# Altium schematic symbol library KeetV2.SchLib: 88 symbols (part 1 of 4)
Pins are listed as number, name and electrical type; pins without a type are passive.

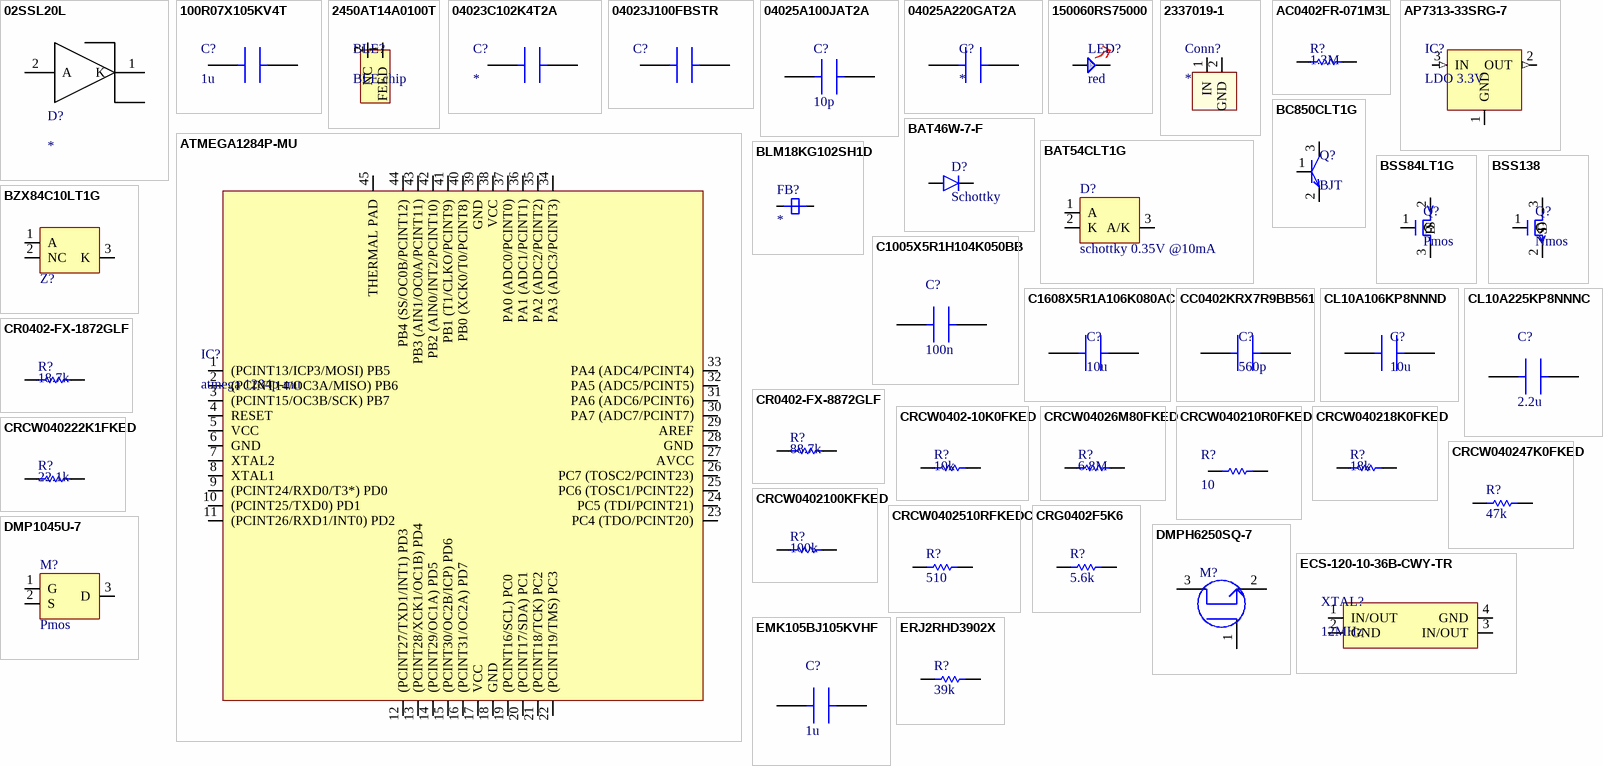
[diagram p0: symbols 02SSL20L to ERJ2RHD3902X]

## 02SSL20L
designator D?
SCHOTTKY DIODE https://eu.mouser.com/datasheet/2/345/02ssl20l-02ssl40l-1107799.pdf
footprint SODFL370X100-2N (SODFL, 2-Leads, Body 1,85x3,70mm, IPC Medium Density)
pins: 1 K, 2 A

## 100R07X105KV4T
designator C?, comment 1u
Cap Ceramic 1uF 10V X5R 10% SMD 0402 85C T/R LOW ESR; Manufacturer: Johanson; Manufacturer Part Number: 100R07X105KV4T; Supplier 1: Mouser; RoHS: Yes; Category: Ceramic Capacitors; Stock 1: 216743; Pricing 1: 1=0,26000, 10=0,13400, 50=0,13400, 100=0,07600, 1000=0,04900, 10000=0,04000 (USD); Mount: Surface Mount; Case/Package: 0402; Number of Pins: 2; Case Code (Metric): 1005; Case Code (Imperial): 0402; Weight: 2.3E-05oz; Min Operating Temperature: -55°C; Max Operating Temperature: 85°C; Capacitance: 1uF; Tolerance: 10%; Voltage Rating: 10V; Packaging: Tape and Reel; Package Quantity: 10000; Voltage Rating (DC): 10V; Dielectric: X5R; Termination: SMD/SMT; Series: TANCERAM®; Length: 1.02mm; Width: 0.02inch; Height: 0.64mm; Thickness: 0.025inch; Depth: 0.51mm; Radiation Hardening: No; REACH SVHC: No SVHC; RoHS Compliant: Yes; ComponentLink1URL: https://datasheet.ciiva.com/22693/jdi-full-catalog-2012-01-22693744.pdf?src-supplier=Element14; ComponentLink1Description: https://datasheet.ciiva.com/22693/jdi-full-catalog-2012-01-22693744.pdf?src-supplier=Element14; ComponentLink2URL: https://datasheet.ciiva.com/26948/getdatasheetpartid-789067-26948543.pdf?src-supplier=Verical; ComponentLink2Description: https://datasheet.ciiva.com/26948/getdatasheetpartid-789067-26948543.pdf?src-supplier=Verical; Supplier Part Number 1: 605-100R07X105KV4T
footprint CAPC1005X06N (Chip Capacitor, 0402, 2-Leads, Body 1,02x0,50mm, IPC Medium Density)
pins: 1, 2

## 2450AT14A0100T
designator BLE?, comment BLE chip
RF ANT 2.4GHZ CHIP SOLDER SMD; Manufacturer: Johanson; Manufacturer Part Number: 2450AT14A0100T; Number of Bands: 1; Return Loss: 9dB; Max Power Dissipation: 2W; Supplier 1: Digi-Key; RoHS: No; Stock 1: 5238; Pricing 1: 1=0,42000, 10=0,35600, 25=0,33240, 100=0,26600, 250=0,24700, 500=0,20900, 1000=0,16150 (USD); Mount: Surface Mount; Packaging: Tape and Reel; Termination: Solder; ComponentLink1URL: https://www.johansontechnology.com/datasheets/2450AT14A0100/2450AT14A0100.pdf?src-supplier=Digi-Key; ComponentLink1Description: https://www.johansontechnology.com/datasheets/2450AT14A0100/2450AT14A0100.pdf?src-supplier=Digi-Key; Supplier Part Number 1: 712-1636-1-ND
footprint BLE antenna (antenna bluethooth)
pins: 1 FEED, 2 NC

## 04023C102K4T2A
designator C?
Cap Ceramic 0.001uF 25V X7R 10% SMD 0402 125°C Paper T/R 1nF; Manufacturer: Kyocera AVX; Manufacturer Part Number: 04023C102K4T2A; Supplier 1: Digi-Key; RoHS: Yes; Category: Ceramic Capacitors; Stock 1: 34215; Pricing 1: 1=0,10000, 10=0,06700, 50=0,03640, 100=0,02960, 500=0,02118, 1000=0,01664, 2500=0,01512, 5000=0,01392 (USD); Case/Package: 0402; Dielectric: X7R; Voltage Rating (DC): 25V; Capacitance: 1nF; Tolerance: 10%; RoHS Compliant: Yes; Supplier Part Number 1: 478-04023C102K4T2ACT-ND
footprint CAPC1005X06N (Chip Capacitor, 0402, 2-Leads, Body 1,02x0,50mm, IPC Medium Density)
pins: 1, 2

## 04023J100FBSTR
designator C?, comment 10p  (value not drawn)
Multilayer Ceramic Capacitors MLCC - SMD/SMT 25V 10pF ThnFlm 0402 1% Tol; Manufacturer: Kyocera AVX; Manufacturer Part Number: 04023J100FBSTR; Supplier 1: Mouser; RoHS: Yes; Category: Film Capacitors; Stock 1: 1287; Pricing 1: 1=0,98000, 10=0,74000, 50=0,74000, 100=0,52900, 1000=0,35300, 10000=0,26100 (USD); Case/Package: 0402; Case Code (Imperial): 0402; Case Code (Metric): 1005; Weight: 2.3E-05oz; Min Operating Temperature: -55°C; Max Operating Temperature: 125°C; Voltage Rating (DC): 25V; Tolerance: 1%; Packaging: Tape and Reel; Termination: SMD/SMT; Resistor Type: Thin Film; Capacitance: 10pF; Length: 1mm; Width: 0.5mm; Height: 0.4mm; ComponentLink1URL: http://www.mouser.com/ds/2/40/avx_accuf-p-542740.pdf?src-supplier=Mouser; ComponentLink1Description: http://www.mouser.com/ds/2/40/avx_accuf-p-542740.pdf?src-supplier=Mouser; Supplier Part Number 1: 581-04023J100FBSTR
footprint CAPC1005X06N (Chip Capacitor, 0402, 2-Leads, Body 1,02x0,50mm, IPC Medium Density)
pins: 1, 2

## 04025A100JAT2A
designator C?, comment 10p
AVX - 04025A100JAT2A - SMD Multilayer Ceramic Capacitor, 10 pF, 50 V, 0402 [1005 Metric], ± 5%, C0G / NP0, AVX 0402 MLCC; Manufacturer: Kyocera AVX; Capacitance: 10pF; Voltage Rating (DC): 50V; Temperature Coefficient: 0ppm/°C; Supplier 1: Mouser; Manufacturer Part Number: 04025A100JAT2A; RoHS: Yes; Category: Ceramic Capacitors; Stock 1: 243212; Pricing 1: 1=0,08000, 10=0,01700, 50=0,01700, 100=0,01400, 1000=0,00800, 10000=0,00500 (USD); Mount: Surface Mount,PCB; Case/Package: 0402; Number of Pins: 2; Case Code (Imperial): 0402; Case Code (Metric): 1005; Contact Plating: Tin,Matte; Dielectric Material: Ceramic; Min Operating Temperature: -55°C; Max Operating Temperature: 125°C; Tolerance: 5%; Dielectric: C0G; Packaging: Tape and Reel; Voltage Rating: 50V; Package Quantity: 1; Termination: SMD/SMT; Voltage: 50V; Series: -; Construction: Flat; Length: 1mm; Width: 0.5mm; Height: 0.5mm; Depth: 0.5mm; Thickness: 0.022inch; Radiation Hardening: No; REACH SVHC: No SVHC; Lead Free: Lead Free; RoHS Compliant: Yes; ComponentLink1URL: https://datasheet.ciiva.com/150/ccog-150503.pdf?src-supplier=Digi-Key; ComponentLink1Description: https://datasheet.ciiva.com/150/ccog-150503.pdf?src-supplier=Digi-Key; ComponentLink2URL: https://datasheet.ciiva.com/150/ccog-150504.pdf?src-supplier=Digi-Key; ComponentLink2Description: https://datasheet.ciiva.com/150/ccog-150504.pdf?src-supplier=Digi-Key; ComponentLink3URL: https://datasheet.ciiva.com/2987/ccog-2987640.pdf?src-supplier=Avnet; ComponentLink3Description: https://datasheet.ciiva.com/2987/ccog-2987640.pdf?src-supplier=Avnet; ComponentLink4URL: https://datasheet.ciiva.com/150/ccog-150505.pdf?src-supplier=Digi-Key; ComponentLink4Description: https://datasheet.ciiva.com/150/ccog-150505.pdf?src-supplier=Digi-Key; ComponentLink5URL: https://datasheet.ciiva.com/16389/ccog-16389833.pdf?src-supplier=Future+Electronics; ComponentLink5Description: https://datasheet.ciiva.com/16389/ccog-16389833.pdf?src-supplier=Future+Electronics; ComponentLink6URL: https://datasheet.ciiva.com/7709/759117-7709531.pdf?src-supplier=Element14; ComponentLink6Description: https://datasheet.ciiva.com/7709/759117-7709531.pdf?src-supplier=Element14; ComponentLink7URL: https://datasheet.ciiva.com/7709/84496-7709756.pdf?src-supplier=Element14; ComponentLink7Description: https://datasheet.ciiva.com/7709/84496-7709756.pdf?src-supplier=Element14; ComponentLink8URL: https://datasheet.ciiva.com/16465/ccog-16465757.pdf?src-supplier=Avnet+Asia; ComponentLink8Description: https://datasheet.ciiva.com/16465/ccog-16465757.pdf?src-supplier=Avnet+Asia; ComponentLink9URL: https://datasheet.ciiva.com/1123/425357-1123470.pdf?src-supplier=Element14; ComponentLink9Description: https://datasheet.ciiva.com/1123/425357-1123470.pdf?src-supplier=Element14; ComponentLink10URL: https://datasheet.ciiva.com/1123/425357-1123471.pdf?src-supplier=Element14; ComponentLink10Description: https://datasheet.ciiva.com/1123/425357-1123471.pdf?src-supplier=Element14; Supplier Part Number 1: 581-04025A100J
footprint CAPC1005X06N (Chip Capacitor, 0402, 2-Leads, Body 1,02x0,50mm, IPC Medium Density)
pins: 1, 2

## 04025A220GAT2A
designator C?
CAP CER 22PF 50V C0G/NP0 0402; Manufacturer: Kyocera AVX; Manufacturer Part Number: 04025A220GAT2A; Dielectric: C0G; Tolerance: 2%; Supplier 1: Digi-Key; RoHS: Yes; Category: Ceramic Capacitors; Stock 1: 14713; Pricing 1: 1=0,50000, 10=0,35200, 50=0,26600, 100=0,23170, 500=0,17160, 1000=0,14586, 2500=0,13728, 5000=0,12870 (USD); Mount: Surface Mount; Case/Package: 0402; Case Code (Metric): 1005; Case Code (Imperial): 0402; Min Operating Temperature: -55°C; Max Operating Temperature: 125°C; Packaging: Tape and Reel; Capacitance: 22pF; Package Quantity: 1; Voltage Rating (DC): 50V; Termination: SMD/SMT; Voltage Rating: 50V; Series: -; Construction: Flat; Length: 1mm; Width: 0.02inch; Height: 0.63mm; Depth: 0.5mm; Thickness: 0.022inch; Radiation Hardening: No; RoHS Compliant: Yes; Lead Free: Lead Free; ComponentLink1URL: https://datasheet.ciiva.com/7614/ccog-7614677.pdf?src-supplier=Digi-Key; ComponentLink1Description: https://datasheet.ciiva.com/7614/ccog-7614677.pdf?src-supplier=Digi-Key; ComponentLink2URL: https://datasheet.ciiva.com/17490/ccog-17490486.pdf?src-supplier=Avnet+Europe; ComponentLink2Description: https://datasheet.ciiva.com/17490/ccog-17490486.pdf?src-supplier=Avnet+Europe; ComponentLink3URL: https://datasheet.ciiva.com/5413/ccog-243403-5413992.pdf?src-supplier=Mouser; ComponentLink3Description: https://datasheet.ciiva.com/5413/ccog-243403-5413992.pdf?src-supplier=Mouser; ComponentLink4URL: https://datasheet.ciiva.com/210/ccog-210553.pdf?src-supplier=Digi-Key; ComponentLink4Description: https://datasheet.ciiva.com/210/ccog-210553.pdf?src-supplier=Digi-Key; ComponentLink5URL: https://datasheet.ciiva.com/11530/ccog-11530027.pdf?src-supplier=Avnet; ComponentLink5Description: https://datasheet.ciiva.com/11530/ccog-11530027.pdf?src-supplier=Avnet; ComponentLink6URL: https://datasheet.ciiva.com/14886/ccog-14886974.pdf?src-supplier=Digi-Key; ComponentLink6Description: https://datasheet.ciiva.com/14886/ccog-14886974.pdf?src-supplier=Digi-Key; Supplier Part Number 1: 478-7874-1-ND
footprint CAPC1005X06N (Chip Capacitor, 0402, 2-Leads, Body 1,02x0,50mm, IPC Medium Density)
pins: 1, 2

## 150060RS75000
designator LED?, comment red
WURTH ELEKTRONIK - 150060RS75000 - LED, Red, 625 nm, 2 V, 30 mA, 250 mcd RoHS Compliant: Yes; Manufacturer: Wurth Electronics; Viewing Angle: 140°; Lens Style: Clear,Rectangular; Luminous Intensity: 250mcd; Forward Current: 30mA; Forward Voltage: 2V; Wavelength: 625nm; Test Current: 20mA; Supplier 1: Mouser; Manufacturer Part Number: 150060RS75000; RoHS: Yes; Category: LEDs; Stock 1: 64382; Pricing 1: 1=0,15000, 10=0,15000, 50=0,13300, 100=0,11400, 1000=0,10600, 10000=0,10600 (USD); Mount: Surface Mount; Case/Package: 0603; Color: Red; Case Code (Metric): 1608; Case Code (Imperial): 0603; Min Operating Temperature: -40°C; Max Operating Temperature: 85°C; Package Quantity: 1; Packaging: Cut Tape; Dominant Wavelength: 625nm; Length: 1.6mm; Width: 0.8mm; Height: 0.7mm; REACH SVHC: Unknown; RoHS Compliant: Yes; ComponentLink1URL: https://datasheet.ciiva.com/29563/150060rs75000-29563040.pdf?src-supplier=Digi-Key; ComponentLink1Description: https://datasheet.ciiva.com/29563/150060rs75000-29563040.pdf?src-supplier=Digi-Key; ComponentLink2URL: https://datasheet.ciiva.com/29279/759428-da-01-en-chipled-0603-w-kl-rot-150060rs75000-29279196.pdf?src-supplier=Conrad; ComponentLink2Description: https://datasheet.ciiva.com/29279/759428-da-01-en-chipled-0603-w-kl-rot-150060rs75000-29279196.pdf?src-supplier=Conrad; Supplier Part Number 1: 710-150060RS75000
footprint CAC-0P80X160-2N (Chip Array, Concave, 2-Leads, Pitch 0,00mm,  Body 0,80x1,60mm,  IPC Medium Density)
pins: 1, 2

## 2337019-1
designator Conn?
RF Connector; Coaxial Connectors MicroCoax receptacle UMCC Gen 1; Manufacturer: TE Connectivity; Manufacturer Part Number: 2337019-1; Supplier 1: Digi-Key; RoHS: Yes; Category: RF / Coaxial Connectors; Stock 1: 3490; Pricing 1: 1=0,19000, 10=0,18000, 25=0,15360, 50=0,13440, 100=0,12470, 250=0,11032, 500=0,10554, 1000=0,08635, 2500=0,07915 (USD); Supplier Part Number 1: A144746CT-ND
footprint IPEX_CONNECTOR_RF
pins: 1 IN (io), 2 GND

## AC0402FR-071M3L
designator R?, comment 1.3M
RES SMD 1.3M OHM 1% 1/16W 0402; Manufacturer: Yageo; Manufacturer Part Number: AC0402FR-071M3L; Resistance: 1.3MR; Max Power Dissipation: 63mW; Temperature Coefficient: 100ppm/°C; Supplier 1: Mouser; RoHS: Yes; Category: Chip SMD Resistors; Stock 1: 49532; Pricing 1: 1=0,10000, 10=0,01700, 50=0,01700, 100=0,00600, 1000=0,00500, 10000=0,00300 (USD); Case/Package: 0402; Min Operating Temperature: -55°C; Max Operating Temperature: 155°C; Packaging: Tape and Reel; Resistor Type: Thick Film; Number of Terminations: 2; Tolerance: 1%; Features: Moisture Resistant,Automotive AEC-Q200; Length: 0.039inch; Width: 0.02inch; Height: 0.015inch; RoHS Compliant: Yes; ComponentLink1URL: http://www.yageo.com/NewPortal/yageodocoutput?fileName=/pdf/R-Chip/PYu-AC_51_RoHS_L_6.pdf&src-supplier=Digi-Key; ComponentLink1Description: http://www.yageo.com/NewPortal/yageodocoutput?fileName=/pdf/R-Chip/PYu-AC_51_RoHS_L_6.pdf&src-supplier=Digi-Key; Supplier Part Number 1: 603-AC0402FR-071M3L
footprint RESC1005X04N (Chip Resistor, 0402, 2-Leads, Body 1,00x0,50mm, IPC Medium Density)
pins: 1, 2

## AP7313-33SRG-7
designator IC?, comment LDO 3.3V
IC REG LIN 3.3V 150MA SOT23R-3; Manufacturer: Diodes; Manufacturer Part Number: AP7313-33SRG-7; Max Power Dissipation: 600mW; Min Input Voltage: 2V; Number of Outputs: 1; Max Input Voltage: 6V; Polarity: Positive; Quiescent Current: 75uA; Accuracy: 2%; Output Type: Fixed; Dropout Voltage: 150mV; Min Current Limit: 200mA; Power Dissipation: 540W; Supplier 1: Mouser; RoHS: Yes; Category: Voltage Regulators - Linear; Stock 1: 3794; Pricing 1: 1=0,35000, 10=0,26100, 50=0,26100, 100=0,13400, 1000=0,10000, 10000=0,10000 (USD); Mount: Surface Mount; Case/Package: TO-236-3; Number of Pins: 3; Weight: 0.000282oz; Min Operating Temperature: -40°C; Max Operating Temperature: 85°C; Output Voltage: 3.3V; Max Output Current: 150mA; Package Quantity: 3000; Packaging: Tape and Reel; Output Current: 150mA; Number of Regulators: 1; Min Output Voltage: 3.3V; Series: AP7313; Length: 3mm; Width: 1.4mm; Height: 1mm; Radiation Hardening: No; REACH SVHC: No SVHC; Lead Free: Lead Free; RoHS Compliant: Yes; ComponentLink1URL: https://datasheet.ciiva.com/26856/getdatasheetpartid-656981-26856375.pdf?src-supplier=Verical; ComponentLink1Description: https://datasheet.ciiva.com/26856/getdatasheetpartid-656981-26856375.pdf?src-supplier=Verical; ComponentLink2URL: https://datasheet.ciiva.com/16415/ap7313-16415567.pdf?src-supplier=Future+Electronics; ComponentLink2Description: https://datasheet.ciiva.com/16415/ap7313-16415567.pdf?src-supplier=Future+Electronics; Supplier Part Number 1: 621-AP7313-33SRG-7
footprint SOT95P240X135-3N (SOT23, 3-Leads, Body 2,90x2,40mm, Pitch 0,95mm, IPC Medium Density)
pins: 1 GND, 2 OUT (out), 3 IN (in)

## ATMEGA1284P-MU
designator IC?, comment atmega 1284p-mu
MCU 8-bit ATmega AVR RISC 128KB Flash 2.5V/3.3V/5V 44-Pin VQFN EP; Manufacturer: Microchip / Atmel; Interface: SPI,USART,2-Wire,I2C,UART; Frequency: 20MHz; Data Bus Width: 8b; RAM Size: 16KB; Number of I/Os: 32; Oscillator Type: Internal; Peripherals: Brown-out Detect/Reset,POR,PWM,WDT; Number of Timers/Counters: 3; Max Supply Voltage: 5.5V; Min Supply Voltage: 1.8V; Watchdog Timer: Yes; Number of PWM Channels: 6; Number of ADC Channels: 8; Number of SPI Channels: 1; Supplier 1: Mouser; Manufacturer Part Number: ATMEGA1284P-MU; RoHS: Yes; Category: Microcontrollers; Stock 1: 90; Pricing 1: 1=5,55000, 10=5,55000, 50=5,09000, 100=4,61000, 1000=4,61000, 10000=4,61000 (USD); Mount: Surface Mount; Case/Package: VQFN EP; Number of Pins: 44; Contact Plating: Tin,Matte; Min Operating Temperature: -40°C; Max Operating Temperature: 85°C; Packaging: Tray; Memory Size: 128KB; Package Quantity: 360; Memory Type: FLASH; Core Architecture: AVR; Number of Programmable I/O: 32; Max Frequency: 20MHz; Series: AVR® ATmega; Number of I2C Channels: 1; Length: 7.1mm; Width: 7.1mm; Height: 0.95mm; Radiation Hardening: No; RoHS Compliant: Yes; REACH SVHC: No SVHC; Lead Free: Lead Free; ComponentLink1URL: https://datasheet.ciiva.com/4839/doc8272-71643-4839072.pdf?src-supplier=Mouser; ComponentLink1Description: https://datasheet.ciiva.com/4839/doc8272-71643-4839072.pdf?src-supplier=Mouser; ComponentLink2URL: https://datasheet.ciiva.com/26818/atmega1284p-mu-26818543.pdf?src-supplier=IIIC; ComponentLink2Description: https://datasheet.ciiva.com/26818/atmega1284p-mu-26818543.pdf?src-supplier=IIIC; ComponentLink3URL: https://datasheet.ciiva.com/9235/doc8272-9235016.pdf?src-supplier=Avnet; ComponentLink3Description: https://datasheet.ciiva.com/9235/doc8272-9235016.pdf?src-supplier=Avnet; ComponentLink4URL: https://datasheet.ciiva.com/1157/1712449-1157226.pdf?src-supplier=Element14; ComponentLink4Description: https://datasheet.ciiva.com/1157/1712449-1157226.pdf?src-supplier=Element14; ComponentLink5URL: https://datasheet.ciiva.com/24154/doc8272-24154058.pdf?src-supplier=Future+Electronics; ComponentLink5Description: https://datasheet.ciiva.com/24154/doc8272-24154058.pdf?src-supplier=Future+Electronics; ComponentLink6URL: https://datasheet.ciiva.com/15213/getdatasheetpartid-187398-15213067.pdf?src-supplier=Verical; ComponentLink6Description: https://datasheet.ciiva.com/15213/getdatasheetpartid-187398-15213067.pdf?src-supplier=Verical; Supplier Part Number 1: 556-ATMEGA1284P-MU
footprint QFN50P700X700X100_HS-45N (QFN, 44-Leads, Body 7,00x7,00mm, Pitch 0,50mm, Thermal Pad 5,20x5,20mm, IPC Medium Density)
pins: 1 (PCINT13/ICP3/MOSI) PB5, 2 (PCINT14/OC3A/MISO) PB6, 3 (PCINT15/OC3B/SCK) PB7, 4 RESET, 5 VCC, 6 GND, 7 XTAL2, 8 XTAL1, 9 (PCINT24/RXD0/T3*) PD0, 10 (PCINT25/TXD0) PD1, 11 (PCINT26/RXD1/INT0) PD2, 12 (PCINT27/TXD1/INT1) PD3, 13 (PCINT28/XCK1/OC1B) PD4, 14 (PCINT29/OC1A) PD5, 15 (PCINT30/OC2B/ICP) PD6, 16 (PCINT31/OC2A) PD7, 17 VCC, 18 GND, 19 (PCINT16/SCL) PC0, 20 (PCINT17/SDA) PC1, 21 (PCINT18/TCK) PC2, 22 (PCINT19/TMS) PC3, 23 PC4 (TDO/PCINT20), 24 PC5 (TDI/PCINT21), 25 PC6 (TOSC1/PCINT22), 26 PC7 (TOSC2/PCINT23), 27 AVCC, 28 GND, 29 AREF, 30 PA7 (ADC7/PCINT7), 31 PA6 (ADC6/PCINT6), 32 PA5 (ADC5/PCINT5), 33 PA4 (ADC4/PCINT4), 34 PA3 (ADC3/PCINT3), 35 PA2 (ADC2/PCINT2), 36 PA1 (ADC1/PCINT1), 37 PA0 (ADC0/PCINT0), 38 VCC, 39 GND, 40 PB0 (XCK0/T0/PCINT8), 41 PB1 (T1/CLKO/PCINT9), 42 PB2 (AIN0/INT2/PCINT10), 43 PB3 (AIN1/OC0A/PCINT11), 44 PB4 (SS/OC0B/PCINT12), 45 THERMAL PAD

## BAT46W-7-F
designator D?, comment Schottky
Diode Schottky 100V 0.15A 2Pin SOD123; Manufacturer: Diodes; Manufacturer Part Number: BAT46W-7-F; Forward Current: 150mA; Element Configuration: Single; Peak Non-Repetitive Surge Current: 750mA; Forward Voltage: 1V; Max Reverse Current: 2uA; Power Dissipation: 200mW; Supplier 1: Mouser; RoHS: Yes; Category: Rectifier Diodes; Stock 1: 53638; Pricing 1: 1=0,370000, 10=0,245000, 50=0,245000, 100=0,133000, 1000=0,081000, 10000=0,056000 (USD); Number of Pins: 2; Weight: 0.000353oz; Contact Plating: Tin,Matte; Min Operating Temperature: -55°C; Max Operating Temperature: 125°C; Max Repetitive Reverse Voltage (Vrrm): 100V; Package Quantity: 3000; Packaging: Tape and Reel; Average Rectified Current: 150mA; Max Forward Surge Current (Ifsm): 750mA; Power Rating: 200mW; Max Reverse Voltage (DC): 100V; Series: -; Length: 2.85mm; Width: 1.7mm; Height: 1.25mm; Radiation Hardening: No; REACH SVHC: No SVHC; Lead Free: Lead Free; RoHS Compliant: Yes; ComponentLink1URL: https://datasheet.ciiva.com/4715/ds30044-73910-4715680.pdf?src-supplier=Mouser; ComponentLink1Description: https://datasheet.ciiva.com/4715/ds30044-73910-4715680.pdf?src-supplier=Mouser; ComponentLink2URL: https://datasheet.ciiva.com/8303/ds30044-8303137.pdf?src-supplier=Avnet; ComponentLink2Description: https://datasheet.ciiva.com/8303/ds30044-8303137.pdf?src-supplier=Avnet; ComponentLink3URL: https://datasheet.ciiva.com/6382/ds30044-6382981.pdf?src-supplier=Digi-Key; ComponentLink3Description: https://datasheet.ciiva.com/6382/ds30044-6382981.pdf?src-supplier=Digi-Key; ComponentLink4URL: https://datasheet.ciiva.com/16574/ds30044-16574286.pdf?src-supplier=Avnet+Europe; ComponentLink4Description: https://datasheet.ciiva.com/16574/ds30044-16574286.pdf?src-supplier=Avnet+Europe; ComponentLink5URL: https://datasheet.ciiva.com/16205/ds30044-16205030.pdf?src-supplier=Future+Electronics; ComponentLink5Description: https://datasheet.ciiva.com/16205/ds30044-16205030.pdf?src-supplier=Future+Electronics; ComponentLink6URL: https://datasheet.ciiva.com/22695/887886-22695798.pdf?src-supplier=Element14; ComponentLink6Description: https://datasheet.ciiva.com/22695/887886-22695798.pdf?src-supplier=Element14; ComponentLink7URL: https://datasheet.ciiva.com/6382/ds30044-6382983.pdf?src-supplier=Digi-Key; ComponentLink7Description: https://datasheet.ciiva.com/6382/ds30044-6382983.pdf?src-supplier=Digi-Key; ComponentLink8URL: https://datasheet.ciiva.com/6382/ds30044-6382985.pdf?src-supplier=Digi-Key; ComponentLink8Description: https://datasheet.ciiva.com/6382/ds30044-6382985.pdf?src-supplier=Digi-Key; ComponentLink9URL: https://datasheet.ciiva.com/15144/getdatasheetpartid-89219-15144635.pdf?src-supplier=Verical; ComponentLink9Description: https://datasheet.ciiva.com/15144/getdatasheetpartid-89219-15144635.pdf?src-supplier=Verical; ComponentLink10URL: https://datasheet.ciiva.com/1177/ds30044-1177855.pdf?src-supplier=Element14; ComponentLink10Description: https://datasheet.ciiva.com/1177/ds30044-1177855.pdf?src-supplier=Element14; Supplier Part Number 1: 621-BAT46W-7-F
footprint TSSOP0P370X135-2N (TSSOP, 2-Leads, Body 1,55x2,70mm, Pitch 0,00mm, IPC Medium Density)
pins: 1 A, 2 K

## BAT54CLT1G
designator D?, comment schottky 0.35V @10mA
Diode Schottky 30V 0.2A 3-Pin SOT-23 T/R; Manufacturer: ON Semiconductor; Manufacturer Part Number: BAT54CLT1G; Forward Current: 200mA; Element Configuration: Common Cathode; Max Power Dissipation: 225mW; Recovery Time: 5ns; Max Reverse Leakage Current: 2uA; Peak Non-Repetitive Surge Current: 600mA; Capacitance: 10pF; Forward Voltage: 800mV; Supplier 1: Mouser; RoHS: Yes; Category: Schottky Diodes; Stock 1: 184659; Pricing 1: 1=0,14000, 10=0,10500, 50=0,10500, 100=0,04100, 1000=0,02900, 10000=0,02200 (USD); Case/Package: SOT-23-3; Number of Pins: 3; Contact Plating: Tin,Matte; Min Operating Temperature: -55°C; Max Operating Temperature: 125°C; Packaging: Tape and Reel; Package Quantity: 3000; Average Rectified Current: 200mA; Reverse Recovery Time: 5ns; Max Repetitive Reverse Voltage (Vrrm): 30V; Max Forward Surge Current (Ifsm): 600mA; Current Rating: 200mA; Voltage Rating (DC): 30V; Max Reverse Voltage (DC): 30V; Max Surge Current: 600mA; Max Reverse Current: 2uA; Power Dissipation: 225mW; Length: 3.04mm; Width: 1.4mm; Height: 1.01mm; Radiation Hardening: No; Lead Free: Lead Free; Halogen Free: Halogen Free; REACH SVHC: No SVHC; ComponentLink1URL: https://datasheet.ciiva.com/1240/bat54clt1-d-1240707.pdf?src-supplier=Newark; ComponentLink1Description: https://datasheet.ciiva.com/1240/bat54clt1-d-1240707.pdf?src-supplier=Newark; ComponentLink2URL: https://datasheet.ciiva.com/34301/885769-34301654.pdf?src-supplier=Jameco; ComponentLink2Description: https://datasheet.ciiva.com/34301/885769-34301654.pdf?src-supplier=Jameco; ComponentLink3URL: https://datasheet.ciiva.com/30479/0900766b8121b932-30479128.pdf?src-supplier=RSComponents; ComponentLink3Description: https://datasheet.ciiva.com/30479/0900766b8121b932-30479128.pdf?src-supplier=RSComponents; ComponentLink4URL: https://datasheet.ciiva.com/15144/getdatasheetpartid-98336-15144809.pdf?src-supplier=Verical; ComponentLink4Description: https://datasheet.ciiva.com/15144/getdatasheetpartid-98336-15144809.pdf?src-supplier=Verical; ComponentLink5URL: https://datasheet.ciiva.com/22659/1918740-22659014.pdf?src-supplier=Element14; ComponentLink5Description: https://datasheet.ciiva.com/22659/1918740-22659014.pdf?src-supplier=Element14; ComponentLink6URL: https://datasheet.ciiva.com/1180/bat54clt1-d-1180247.pdf?src-supplier=Element14; ComponentLink6Description: https://datasheet.ciiva.com/1180/bat54clt1-d-1180247.pdf?src-supplier=Element14; ComponentLink7URL: https://datasheet.ciiva.com/1180/bat54clt1-d-1180248.pdf?src-supplier=Element14; ComponentLink7Description: https://datasheet.ciiva.com/1180/bat54clt1-d-1180248.pdf?src-supplier=Element14; ComponentLink8URL: https://datasheet.ciiva.com/16205/bat54clt1-d-16205033.pdf?src-supplier=Future+Electronics; ComponentLink8Description: https://datasheet.ciiva.com/16205/bat54clt1-d-16205033.pdf?src-supplier=Future+Electronics; ComponentLink9URL: https://datasheet.ciiva.com/905/bat54clt1-d-905835.pdf?src-supplier=Digi-Key; ComponentLink9Description: https://datasheet.ciiva.com/905/bat54clt1-d-905835.pdf?src-supplier=Digi-Key; ComponentLink10URL: https://datasheet.ciiva.com/28655/bat54clt1-d-28655787.pdf?src-supplier=Element14; ComponentLink10Description: https://datasheet.ciiva.com/28655/bat54clt1-d-28655787.pdf?src-supplier=Element14; ComponentLink11URL: https://datasheet.ciiva.com/8294/bat54clt1-d-8294495.pdf?src-supplier=Avnet; ComponentLink11Description: https://datasheet.ciiva.com/8294/bat54clt1-d-8294495.pdf?src-supplier=Avnet; Supplier Part Number 1: 863-BAT54CLT1G
footprint SOT95P245X110-3N (SOT23, 3-Leads, Body 2,90x2,45mm, Pitch 0,95mm, IPC Medium Density)
pins: 1 A, 2 K, 3 A/K

## BC850CLT1G
designator Q?, comment BJT
ON SEMICONDUCTOR   BC850CLT1G   BIPOLAR TRANSISTOR, NPN, 45V SOT-23; Max Power Dissipation: 225mW; Max Collector Current: 100mA; Transition Frequency: 100MHz; Collector Base Voltage (VCBO): 50V; Number of Elements: 1; hFE Min: 420; Emitter Base Voltage (VEBO): 6V; Collector Emitter Saturation Voltage: 600mV; Power Dissipation: 300mW; Element Configuration: Single; Supplier 1: Mouser; Manufacturer: ON Semiconductor; Manufacturer Part Number: BC850CLT1G; RoHS: Yes; Category: BJTs; Stock 1: 123785; Pricing 1: 1=0,11000, 10=0,09800, 50=0,09800, 100=0,03400, 1000=0,02400, 10000=0,01500 (USD); Case/Package: SOT-23-3; Number of Pins: 3; Contact Plating: Tin,Matte; Min Operating Temperature: -55°C; Max Operating Temperature: 150°C; Collector Emitter Voltage (VCEO): 45V; Packaging: Tape and Reel; Collector Emitter Breakdown Voltage: 45V; Frequency: 100MHz; Package Quantity: 1; Max Breakdown Voltage: 45V; Polarity: NPN; Max Frequency: 100MHz; Gain Bandwidth Product: 100MHz; Voltage Rating (DC): 45V; Current Rating: 100mA; Series: -; Collector-emitter Voltage-Max: 600mV; Length: 2.9mm; Width: 1.3mm; Height: 0.94mm; Radiation Hardening: No; RoHS Compliant: Yes; Lead Free: Lead Free; REACH SVHC: No SVHC; ComponentLink1URL: https://datasheet.ciiva.com/976/bc846alt1-d-976401.pdf?src-supplier=Digi-Key; ComponentLink1Description: https://datasheet.ciiva.com/976/bc846alt1-d-976401.pdf?src-supplier=Digi-Key; ComponentLink2URL: https://datasheet.ciiva.com/976/bc846alt1-d-976402.pdf?src-supplier=Digi-Key; ComponentLink2Description: https://datasheet.ciiva.com/976/bc846alt1-d-976402.pdf?src-supplier=Digi-Key; ComponentLink3URL: https://datasheet.ciiva.com/976/bc846alt1-d-976403.pdf?src-supplier=Digi-Key; ComponentLink3Description: https://datasheet.ciiva.com/976/bc846alt1-d-976403.pdf?src-supplier=Digi-Key; ComponentLink4URL: https://datasheet.ciiva.com/7971/1571861-7971973.pdf?src-supplier=Element14; ComponentLink4Description: https://datasheet.ciiva.com/7971/1571861-7971973.pdf?src-supplier=Element14; ComponentLink5URL: https://datasheet.ciiva.com/11204/bc846alt1-d-11204376.pdf?src-supplier=Avnet; ComponentLink5Description: https://datasheet.ciiva.com/11204/bc846alt1-d-11204376.pdf?src-supplier=Avnet; ComponentLink6URL: https://datasheet.ciiva.com/25997/bc846alt1-d-25997003.pdf?src-supplier=Avnet+Europe; ComponentLink6Description: https://datasheet.ciiva.com/25997/bc846alt1-d-25997003.pdf?src-supplier=Avnet+Europe; ComponentLink7URL: https://datasheet.ciiva.com/7972/bc846alt1-d-7972206.pdf?src-supplier=Element14; ComponentLink7Description: https://datasheet.ciiva.com/7972/bc846alt1-d-7972206.pdf?src-supplier=Element14; ComponentLink8URL: https://datasheet.ciiva.com/16291/bc846alt1-d-16291503.pdf?src-supplier=Future+Electronics; ComponentLink8Description: https://datasheet.ciiva.com/16291/bc846alt1-d-16291503.pdf?src-supplier=Future+Electronics; Supplier Part Number 1: 863-BC850CLT1G
footprint SOT95P245X110-3N (SOT23, 3-Leads, Body 2,90x2,45mm, Pitch 0,95mm, IPC Medium Density)
pins: 1, 2, 3

## BLM18KG102SH1D
designator FB?
Ferrite Beads Multi-Layer Power 1KOhm 25% 100MHz 1A 0.2Ohm DCR 0603 Automotive T/R; Manufacturer: Murata; Manufacturer Part Number: BLM18KG102SH1D; Number of Lines: 1; DC Resistance (DCR): 200mR; Supplier 1: Digi-Key; RoHS: Yes; Category: Ferrite Beads and Chips; Stock 1: 27011; Pricing 1: 1=0,10000, 10=0,07000, 25=0,06200, 50=0,05280, 100=0,04650, 250=0,04264, 500=0,03876, 1000=0,03255 (USD); Mount: Surface Mount; Case/Package: 0603; Case Code (Imperial): 0603; Case Code (Metric): 1608; Min Operating Temperature: -55°C; Max Operating Temperature: 125°C; Packaging: Cut Tape; Max Current Rating: 1A; Ratings: AEC-Q200; RoHS Compliant: Yes; ComponentLink1URL: https://www.murata.com/en-us/products/productdata/8796737372190/S0608E.pdf?src-supplier=Digi-Key; ComponentLink1Description: https://www.murata.com/en-us/products/productdata/8796737372190/S0608E.pdf?src-supplier=Digi-Key; ComponentLink2URL: https://www.murata.com/en-us/products/productdata/8796737273886/QNFA9101.pdf?src-supplier=Digi-Key; ComponentLink2Description: https://www.murata.com/en-us/products/productdata/8796737273886/QNFA9101.pdf?src-supplier=Digi-Key; Supplier Part Number 1: 490-17348-1-ND
footprint RESC1608X04N (Chip Resistor, 0603, 2-Leads, Body 1,60x0,80mm, IPC Medium Density)
pins: 1, 2

## BSS84LT1G
designator Q?, comment Pmos
On a Reel of 3000, P-Channel MOSFET, 130 mA, 50 V, 3-Pin SOT-23 ON Semiconductor BSS84LT1G; Rise Time: 1ns; Rds On Max: 10R; Input Capacitance: 30pF; Number of Elements: 1; Max Power Dissipation: 225mW; Drain to Source Voltage (Vdss): 50V; Continuous Drain Current (ID): 130mA; Turn-Off Delay Time: 16ns; Turn-On Delay Time: 3.6ns; Gate to Source Voltage (Vgs): 20V; Nominal Vgs: 2V; Threshold Voltage: -2V; Element Configuration: Single; Voltage Rating (DC): -50V; Current Rating: -130mA; Supplier 1: Mouser; Manufacturer: ON Semiconductor; Manufacturer Part Number: BSS84LT1G; RoHS: Yes; Category: MOSFETs; Stock 1: 957; Pricing 1: 1=0,290000, 10=0,195000, 50=0,195000, 100=0,080000, 1000=0,057000, 10000=0,036000 (USD); Case/Package: SOT-23-3; Number of Pins: 3; Contact Plating: Tin,Matte; Min Operating Temperature: -55°C; Max Operating Temperature: 150°C; Package Quantity: 1; Packaging: Tape and Reel; Fall Time: 1ns; Power Dissipation: 225mW; Drain to Source Breakdown Voltage: 50V; Drain to Source Resistance: 10R; On-State Resistance: 10R; Length: 0.119inch; Width: 0.055inch; Height: 0.04inch; Radiation Hardening: No; Lead Free: Lead Free; REACH SVHC: No SVHC; Halogen Free: Halogen Free; ComponentLink1URL: https://datasheet.ciiva.com/1190/86068-1190258.pdf?src-supplier=Element14; ComponentLink1Description: https://datasheet.ciiva.com/1190/86068-1190258.pdf?src-supplier=Element14; ComponentLink2URL: https://datasheet.ciiva.com/1255/1747989-1255091.pdf?src-supplier=Newark; ComponentLink2Description: https://datasheet.ciiva.com/1255/1747989-1255091.pdf?src-supplier=Newark; ComponentLink3URL: https://datasheet.ciiva.com/15198/getdatasheetpartid-86905-15198910.pdf?src-supplier=Verical; ComponentLink3Description: https://datasheet.ciiva.com/15198/getdatasheetpartid-86905-15198910.pdf?src-supplier=Verical; ComponentLink4URL: https://datasheet.ciiva.com/1190/86068-1190259.pdf?src-supplier=Element14; ComponentLink4Description: https://datasheet.ciiva.com/1190/86068-1190259.pdf?src-supplier=Element14; ComponentLink5URL: https://datasheet.ciiva.com/27054/1920992-27054773.pdf?src-supplier=Jameco; ComponentLink5Description: https://datasheet.ciiva.com/27054/1920992-27054773.pdf?src-supplier=Jameco; ComponentLink6URL: https://datasheet.ciiva.com/26146/bss84lt1-d-26146231.pdf?src-supplier=Avnet+Europe; ComponentLink6Description: https://datasheet.ciiva.com/26146/bss84lt1-d-26146231.pdf?src-supplier=Avnet+Europe; ComponentLink7URL: https://datasheet.ciiva.com/16335/bss84lt1-d-16335336.pdf?src-supplier=Future+Electronics; ComponentLink7Description: https://datasheet.ciiva.com/16335/bss84lt1-d-16335336.pdf?src-supplier=Future+Electronics; ComponentLink8URL: https://datasheet.ciiva.com/6380/bss84lt1-d-6380649.pdf?src-supplier=Digi-Key; ComponentLink8Description: https://datasheet.ciiva.com/6380/bss84lt1-d-6380649.pdf?src-supplier=Digi-Key; ComponentLink9URL: https://datasheet.ciiva.com/11168/bss84lt1-d-11168266.pdf?src-supplier=Avnet; ComponentLink9Description: https://datasheet.ciiva.com/11168/bss84lt1-d-11168266.pdf?src-supplier=Avnet; ComponentLink10URL: https://datasheet.ciiva.com/6380/bss84lt1-d-6380651.pdf?src-supplier=Digi-Key; ComponentLink10Description: https://datasheet.ciiva.com/6380/bss84lt1-d-6380651.pdf?src-supplier=Digi-Key; ComponentLink11URL: https://datasheet.ciiva.com/6380/bss84lt1-d-6380652.pdf?src-supplier=Digi-Key; ComponentLink11Description: https://datasheet.ciiva.com/6380/bss84lt1-d-6380652.pdf?src-supplier=Digi-Key; ComponentLink12URL: https://datasheet.ciiva.com/8115/bss84lt1-d-8115421.pdf?src-supplier=Avnet; ComponentLink12Description: https://datasheet.ciiva.com/8115/bss84lt1-d-8115421.pdf?src-supplier=Avnet; Supplier Part Number 1: 863-BSS84LT1G
footprint SOT95P237X111-3N (SOT23, 3-Leads, Body 2,90x2,37mm, Pitch 0,95mm, IPC Medium Density)
pins: 1 G, 2 S, 3 D

## BSS138
designator Q?, comment Nmos
Trans MOSFET N-CH 50V 0.22A 3-Pin SOT-23 T/R; Manufacturer: ON Semiconductor / Fairchild; Manufacturer Part Number: BSS138; Rds On Max: 3.5R; Continuous Drain Current (ID): 220mA; Max Power Dissipation: 360mW; Turn-Off Delay Time: 20ns; Gate to Source Voltage (Vgs): 20V; Input Capacitance: 27pF; Turn-On Delay Time: 2.5ns; Number of Elements: 1; Element Configuration: Single; Fall Time: 9ns; Threshold Voltage: 1.3V; On-State Resistance: 6R; Supplier 1: Mouser; RoHS: Yes; Category: MOSFETs; Stock 1: 226455; Pricing 1: 1=0,26000, 10=0,18000, 50=0,18000, 100=0,07300, 1000=0,05100, 10000=0,03300 (USD); Mount: Surface Mount; Case/Package: SOT-23; Number of Pins: 3; Contact Plating: Tin,Matte; Weight: 0.03g; Min Operating Temperature: -55°C; Max Operating Temperature: 150°C; Packaging: Tape and Reel; Drain to Source Voltage (Vdss): 50V; Power Dissipation: 360mW; Drain to Source Breakdown Voltage: 50V; Drain to Source Resistance: 3.5R; Package Quantity: 1; Rise Time: 9ns; Voltage Rating (DC): 50V; Current Rating: 220mA; Nominal Vgs: 1.3V; Termination: SMD/SMT; Dual Supply Voltage: 50V; Length: 2.92mm; Width: 1.3mm; Height: 0.93mm; Radiation Hardening: No; Lead Free: Lead Free; REACH SVHC: No SVHC; ComponentLink1URL: https://datasheet.ciiva.com/1190/193736-1190130.pdf?src-supplier=Element14; ComponentLink1Description: https://datasheet.ciiva.com/1190/193736-1190130.pdf?src-supplier=Element14; ComponentLink2URL: https://datasheet.ciiva.com/931/bss138-931776.pdf?src-supplier=Digi-Key; ComponentLink2Description: https://datasheet.ciiva.com/931/bss138-931776.pdf?src-supplier=Digi-Key; ComponentLink3URL: https://datasheet.ciiva.com/1190/193736-1190131.pdf?src-supplier=Element14; ComponentLink3Description: https://datasheet.ciiva.com/1190/193736-1190131.pdf?src-supplier=Element14; ComponentLink4URL: https://datasheet.ciiva.com/1254/193736-1254983.pdf?src-supplier=Newark; ComponentLink4Description: https://datasheet.ciiva.com/1254/193736-1254983.pdf?src-supplier=Newark; ComponentLink5URL: https://datasheet.ciiva.com/22655/193736-22655240.pdf?src-supplier=Element14; ComponentLink5Description: https://datasheet.ciiva.com/22655/193736-22655240.pdf?src-supplier=Element14; ComponentLink6URL: https://datasheet.ciiva.com/26229/bss138-26229007.pdf?src-supplier=Avnet+Europe; ComponentLink6Description: https://datasheet.ciiva.com/26229/bss138-26229007.pdf?src-supplier=Avnet+Europe; ComponentLink7URL: https://datasheet.ciiva.com/3304/bss138-3304424.pdf?src-supplier=Avnet; ComponentLink7Description: https://datasheet.ciiva.com/3304/bss138-3304424.pdf?src-supplier=Avnet; ComponentLink8URL: https://datasheet.ciiva.com/16834/bss138-16834843.pdf?src-supplier=Future+Electronics; ComponentLink8Description: https://datasheet.ciiva.com/16834/bss138-16834843.pdf?src-supplier=Future+Electronics; ComponentLink9URL: https://datasheet.ciiva.com/27050/784896-27050043.pdf?src-supplier=Jameco; ComponentLink9Description: https://datasheet.ciiva.com/27050/784896-27050043.pdf?src-supplier=Jameco; Supplier Part Number 1: 512-BSS138
footprint SOT95P240X135-3N (SOT23, 3-Leads, Body 2,90x2,40mm, Pitch 0,95mm, IPC Medium Density)
pins: 1 G, 2 S, 3 D

## BZX84C10LT1G
designator Z?, comment zener 10V  (value not drawn)
ON SEMICONDUCTOR - BZX84C10LT1G - Zener Single Diode, 10 V, 225 mW, SOT-23, 6 %, 3 Pins, 150 °C; Max Power Dissipation: 225mW; Tolerance: 6%; Forward Voltage: 900mV; Max Reverse Leakage Current: 200nA; Impedance: 20R; Power Dissipation: 300mW; Test Current: 5mA; Breakdown Voltage: 10.6V; ESD Protection: Yes; Zener Current: 10mA; Supplier 1: Mouser; Manufacturer: ON Semiconductor; Manufacturer Part Number: BZX84C10LT1G; RoHS: Yes; Category: Zener Diodes; Stock 1: 59638; Pricing 1: 1=0,13000, 10=0,09200, 50=0,09200, 100=0,03900, 1000=0,02700, 10000=0,01800 (USD); Case/Package: SOT-23-3; Number of Pins: 3; Material: Plastic; Contact Plating: Tin,Matte; Min Operating Temperature: -65°C; Max Operating Temperature: 150°C; Packaging: Tape and Reel; Package Quantity: 3000; Zener Voltage: 10V; Voltage Tolerance: 6%; Working Voltage: 10V; Max Reverse Current: 200nA; Element Configuration: Single; Voltage Rating (DC): 10V; Power Rating: 225mW; Length: 0.119inch; Width: 0.055inch; Height: 0.044inch; Radiation Hardening: No; Lead Free: Lead Free; Halogen Free: Halogen Free; REACH SVHC: No SVHC; RoHS Compliant: Yes; ComponentLink1URL: https://datasheet.ciiva.com/18435/70100187-18435125.pdf?src-supplier=Allied+Electronics; ComponentLink1Description: https://datasheet.ciiva.com/18435/70100187-18435125.pdf?src-supplier=Allied+Electronics; ComponentLink2URL: https://datasheet.ciiva.com/894/bzx84c2v4lt1-d-894713.pdf?src-supplier=Digi-Key; ComponentLink2Description: https://datasheet.ciiva.com/894/bzx84c2v4lt1-d-894713.pdf?src-supplier=Digi-Key; ComponentLink3URL: https://datasheet.ciiva.com/894/bzx84c2v4lt1-d-894714.pdf?src-supplier=Digi-Key; ComponentLink3Description: https://datasheet.ciiva.com/894/bzx84c2v4lt1-d-894714.pdf?src-supplier=Digi-Key; ComponentLink4URL: https://datasheet.ciiva.com/8345/bzx84c2v4lt1-d-8345770.pdf?src-supplier=Avnet; ComponentLink4Description: https://datasheet.ciiva.com/8345/bzx84c2v4lt1-d-8345770.pdf?src-supplier=Avnet; ComponentLink5URL: https://datasheet.ciiva.com/894/bzx84c2v4lt1-d-894715.pdf?src-supplier=Digi-Key; ComponentLink5Description: https://datasheet.ciiva.com/894/bzx84c2v4lt1-d-894715.pdf?src-supplier=Digi-Key; ComponentLink6URL: https://datasheet.ciiva.com/16419/bzx84c2v4lt1-d-16419756.pdf?src-supplier=Future+Electronics; ComponentLink6Description: https://datasheet.ciiva.com/16419/bzx84c2v4lt1-d-16419756.pdf?src-supplier=Future+Electronics; ComponentLink7URL: https://datasheet.ciiva.com/8026/bzx84c2v4lt1-d-8026718.pdf?src-supplier=Element14; ComponentLink7Description: https://datasheet.ciiva.com/8026/bzx84c2v4lt1-d-8026718.pdf?src-supplier=Element14; ComponentLink8URL: https://datasheet.ciiva.com/16473/bzx84c2v4lt1-d-16473599.pdf?src-supplier=Avnet+Asia; ComponentLink8Description: https://datasheet.ciiva.com/16473/bzx84c2v4lt1-d-16473599.pdf?src-supplier=Avnet+Asia; ComponentLink9URL: https://datasheet.ciiva.com/22626/1874542-22626847.pdf?src-supplier=Element14; ComponentLink9Description: https://datasheet.ciiva.com/22626/1874542-22626847.pdf?src-supplier=Element14; Supplier Part Number 1: 863-BZX84C10LT1G
footprint SOT95P245X110-3N (SOT23, 3-Leads, Body 2,90x2,45mm, Pitch 0,95mm, IPC Medium Density)
pins: 1 A, 2 NC, 3 K

## C1005X5R1H104K050BB
designator C?, comment 100n
CAP CER 0.1UF 50V X5R 0402; Manufacturer: TDK; Manufacturer Part Number: C1005X5R1H104K050BB; Dielectric Material: Ceramic; Capacitance: 100nF; Tolerance: 10%; Supplier 1: Mouser; RoHS: Yes; Category: Ceramic Capacitors; Stock 1: 364267; Pricing 1: 1=0,12000, 10=0,04700, 50=0,04700, 100=0,03200, 1000=0,02200, 10000=0,01400 (USD); Mount: Surface Mount; Case/Package: 0402; Case Code (Metric): 1005; Case Code (Imperial): 0402; Weight: 2.3E-05oz; Min Operating Temperature: -55°C; Max Operating Temperature: 85°C; Dielectric: X5R; Voltage Rating: 50V; Packaging: Tape and Reel; Voltage Rating (DC): 50V; Termination: SMD/SMT; Package Quantity: 1; Resistor Type: Ceramic; Voltage: 50V; Series: C; Construction: Flat; Length: 1mm; Width: 0.02inch; Height: 0.5mm; Depth: 0.5mm; Thickness: 0.022inch; Radiation Hardening: No; Lead Free: Lead Free; REACH SVHC: No SVHC; RoHS Compliant: Yes; ComponentLink1URL: https://datasheet.ciiva.com/26946/getdatasheetpartid-743571-26946503.pdf?src-supplier=Verical; ComponentLink1Description: https://datasheet.ciiva.com/26946/getdatasheetpartid-743571-26946503.pdf?src-supplier=Verical; ComponentLink2URL: https://datasheet.ciiva.com/6292/tdkmlcccaprange-6292486.pdf?src-supplier=Digi-Key; ComponentLink2Description: https://datasheet.ciiva.com/6292/tdkmlcccaprange-6292486.pdf?src-supplier=Digi-Key; ComponentLink3URL: https://datasheet.ciiva.com/16494/e413-c-16494264.pdf?src-supplier=Future+Electronics; ComponentLink3Description: https://datasheet.ciiva.com/16494/e413-c-16494264.pdf?src-supplier=Future+Electronics; ComponentLink4URL: https://datasheet.ciiva.com/17487/e412-c-17487567.pdf?src-supplier=Avnet+Europe; ComponentLink4Description: https://datasheet.ciiva.com/17487/e412-c-17487567.pdf?src-supplier=Avnet+Europe; Supplier Part Number 1: 810-C1005X5R1H104K
footprint CAPC1005X06N (Chip Capacitor, 0420, 2-Leads, Body 1,02x0,50mm, IPC Medium Density)
pins: 1, 2

## C1608X5R1A106K080AC
designator C?, comment 10u
TDK         C1608X5R1A106K080AC.            CERAMIC CAPACITOR, 10UF, 10V, X5R, 10%, 0603, FULL REEL; Supplier 1: Mouser; Manufacturer: TDK; Manufacturer Part Number: C1608X5R1A106K080AC; RoHS: Yes; Category: Ceramic Capacitors; Stock 1: 428553; Pricing 1: 1=0,33000, 10=0,21300, 50=0,21300, 100=0,17800, 1000=0,11600, 10000=0,11600 (USD); Mount: Surface Mount; Case/Package: 0603; Number of Pins: 2; Case Code (Imperial): 0603; Case Code (Metric): 1608; Weight: 7.1E-05oz; Dielectric Material: Ceramic; Min Operating Temperature: -55°C; Max Operating Temperature: 85°C; Capacitance: 10uF; Tolerance: 10%; Voltage Rating: 10V; Voltage Rating (DC): 10V; Packaging: Tape and Reel; Package Quantity: 1; Termination: SMD/SMT; Dielectric: X5R; Series: C; Construction: Flat; Resistor Type: Ceramic; Voltage: 10V; Length: 1.6mm; Width: 0.8mm; Height: 0.8mm; Depth: 0.8mm; Thickness: 0.035inch; Radiation Hardening: No; RoHS Compliant: Yes; Lead Free: Lead Free; REACH SVHC: No SVHC; ComponentLink1URL: https://datasheet.ciiva.com/16449/mlcc-commercial-general-en-16449573.pdf?src-supplier=Future+Electronics; ComponentLink1Description: https://datasheet.ciiva.com/16449/mlcc-commercial-general-en-16449573.pdf?src-supplier=Future+Electronics; ComponentLink2URL: https://datasheet.ciiva.com/48671/e412-c-48671301.pdf?src-supplier=Avnet; ComponentLink2Description: https://datasheet.ciiva.com/48671/e412-c-48671301.pdf?src-supplier=Avnet; ComponentLink3URL: https://datasheet.ciiva.com/22694/1796654-22694118.pdf?src-supplier=Element14; ComponentLink3Description: https://datasheet.ciiva.com/22694/1796654-22694118.pdf?src-supplier=Element14; ComponentLink4URL: https://datasheet.ciiva.com/17487/e412-c-17487511.pdf?src-supplier=Avnet+Europe; ComponentLink4Description: https://datasheet.ciiva.com/17487/e412-c-17487511.pdf?src-supplier=Avnet+Europe; ComponentLink5URL: https://datasheet.ciiva.com/7975/1796654-7975065.pdf?src-supplier=Element14; ComponentLink5Description: https://datasheet.ciiva.com/7975/1796654-7975065.pdf?src-supplier=Element14; ComponentLink6URL: https://datasheet.ciiva.com/23802/1796654-23802763.pdf?src-supplier=Newark; ComponentLink6Description: https://datasheet.ciiva.com/23802/1796654-23802763.pdf?src-supplier=Newark; ComponentLink7URL: https://datasheet.ciiva.com/6288/tdkmlcccaprange-6288220.pdf?src-supplier=Digi-Key; ComponentLink7Description: https://datasheet.ciiva.com/6288/tdkmlcccaprange-6288220.pdf?src-supplier=Digi-Key; ComponentLink8URL: https://datasheet.ciiva.com/28577/mlcc-commercial-general-en-28577085.pdf?src-supplier=Element14; ComponentLink8Description: https://datasheet.ciiva.com/28577/mlcc-commercial-general-en-28577085.pdf?src-supplier=Element14; ComponentLink9URL: https://datasheet.ciiva.com/6288/tdkmlcccaprange-6288222.pdf?src-supplier=Digi-Key; ComponentLink9Description: https://datasheet.ciiva.com/6288/tdkmlcccaprange-6288222.pdf?src-supplier=Digi-Key; ComponentLink10URL: https://datasheet.ciiva.com/6288/tdkmlcccaprange-6288223.pdf?src-supplier=Digi-Key; ComponentLink10Description: https://datasheet.ciiva.com/6288/tdkmlcccaprange-6288223.pdf?src-supplier=Digi-Key; ComponentLink11URL: https://datasheet.ciiva.com/28577/1744655-28577071.pdf?src-supplier=Element14; ComponentLink11Description: https://datasheet.ciiva.com/28577/1744655-28577071.pdf?src-supplier=Element14; Supplier Part Number 1: 810-C1608X5R1A106K
footprint CAPC1608X10N (capacitor, 0603)
pins: 1, 2

## CC0402KRX7R9BB561
designator C?, comment 560p
CAP CER 560PF 50V X7R 0402; Manufacturer: Yageo; Manufacturer Part Number: CC0402KRX7R9BB561; Tolerance: 10%; Supplier 1: Mouser; RoHS: Yes; Category: Ceramic Capacitors; Stock 1: 95508; Pricing 1: 1=0,10000, 10=0,02400, 50=0,02400, 100=0,01100, 1000=0,00900, 10000=0,00600 (USD); Mount: Surface Mount; Case/Package: 0402; Number of Pins: 2; Case Code (Metric): 1005; Case Code (Imperial): 0402; Min Operating Temperature: -55°C; Max Operating Temperature: 125°C; Capacitance: 560pF; Dielectric: X7R; Packaging: Tape and Reel; Package Quantity: 1; Voltage Rating: 50V; Voltage Rating (DC): 50V; Termination: SMD/SMT; Resistor Type: Ceramic; Series: CC; Construction: Flat; Length: 1mm; Width: 0.02inch; Height: 0.5mm; Thickness: 0.022inch; Depth: 0.5mm; Radiation Hardening: No; Lead Free: Lead Free; Halogen Free: Halogen Free; RoHS Compliant: Yes; ComponentLink1URL: https://datasheet.ciiva.com/155/mlccorderingcode-155860.pdf?src-supplier=Digi-Key; ComponentLink1Description: https://datasheet.ciiva.com/155/mlccorderingcode-155860.pdf?src-supplier=Digi-Key; ComponentLink2URL: https://datasheet.ciiva.com/155/mlccorderingcode-155861.pdf?src-supplier=Digi-Key; ComponentLink2Description: https://datasheet.ciiva.com/155/mlccorderingcode-155861.pdf?src-supplier=Digi-Key; ComponentLink3URL: https://datasheet.ciiva.com/155/mlccorderingcode-155862.pdf?src-supplier=Digi-Key; ComponentLink3Description: https://datasheet.ciiva.com/155/mlccorderingcode-155862.pdf?src-supplier=Digi-Key; ComponentLink4URL: https://datasheet.ciiva.com/17437/upy-gphc-x7r-6-3v-to-50v-8-17437195.pdf?src-supplier=Avnet+Europe; ComponentLink4Description: https://datasheet.ciiva.com/17437/upy-gphc-x7r-6-3v-to-50v-8-17437195.pdf?src-supplier=Avnet+Europe; ComponentLink5URL: https://datasheet.ciiva.com/11586/upy-gphc-x7r-6-3v-to-50v-8-11586492.pdf?src-supplier=Avnet; ComponentLink5Description: https://datasheet.ciiva.com/11586/upy-gphc-x7r-6-3v-to-50v-8-11586492.pdf?src-supplier=Avnet; ComponentLink6URL: https://datasheet.ciiva.com/13395/upy-gphc-x7r-6-3v-to-50v-8-13395197.pdf?src-supplier=Mouser; ComponentLink6Description: https://datasheet.ciiva.com/13395/upy-gphc-x7r-6-3v-to-50v-8-13395197.pdf?src-supplier=Mouser; Supplier Part Number 1: 603-CC402KRX7R9BB561
footprint CAPC1005X06N (Chip Capacitor, 0402, 2-Leads, Body 1,02x0,50mm, IPC Medium Density)
pins: 1, 2

## CL10A106KP8NNND
designator C?, comment 10u
CAP CER 10UF 10V X5R 0603; Manufacturer: Samsung; Manufacturer Part Number: CL10A106KP8NNND; Tolerance: 10%; Supplier 1: Mouser; RoHS: Yes; Category: Ceramic Capacitors; Pricing 1: 1=0,20000, 10=0,13600, 50=0,13600, 100=0,07000, 1000=0,04200, 10000=0,02900 (USD); Mount: Surface Mount; Case/Package: 0603; Min Operating Temperature: -55°C; Max Operating Temperature: 85°C; Capacitance: 10uF; Dielectric: X5R; Packaging: Tape and Reel; Package Quantity: 10000; Voltage Rating: 10V; Voltage Rating (DC): 10V; Series: CL; Construction: Flat; Length: 1.6mm; Width: 0.031inch; Height: 0.8mm; Thickness: 0.035inch; Depth: 0.8mm; Radiation Hardening: No; Lead Free: Lead Free; RoHS Compliant: Yes; ComponentLink1URL: https://datasheet.ciiva.com/26920/getdatasheetpartid-359542-26920173.pdf?src-supplier=Verical; ComponentLink1Description: https://datasheet.ciiva.com/26920/getdatasheetpartid-359542-26920173.pdf?src-supplier=Verical; ComponentLink2URL: https://datasheet.ciiva.com/25725/cl10a106kp8nnnd-25725614.pdf?src-supplier=Digi-Key; ComponentLink2Description: https://datasheet.ciiva.com/25725/cl10a106kp8nnnd-25725614.pdf?src-supplier=Digi-Key; Supplier Part Number 1: 187-CL10A106KP8NNND
footprint CAPC1608X10N (capacitor, 0603)
pins: 1, 2